# Altium footprint library PCBFeatures.PcbLib: 12 footprints
Each footprint in its own frame and in the unit in brackets; x right, y up, seen from the top. Pads: shape width x height; smd on the part's side, far side on the other; paste and mask are expansions set on the pad; w line width, h text height; cw(c..) or ccw(c..) is an arc to the next point about the centre after c.
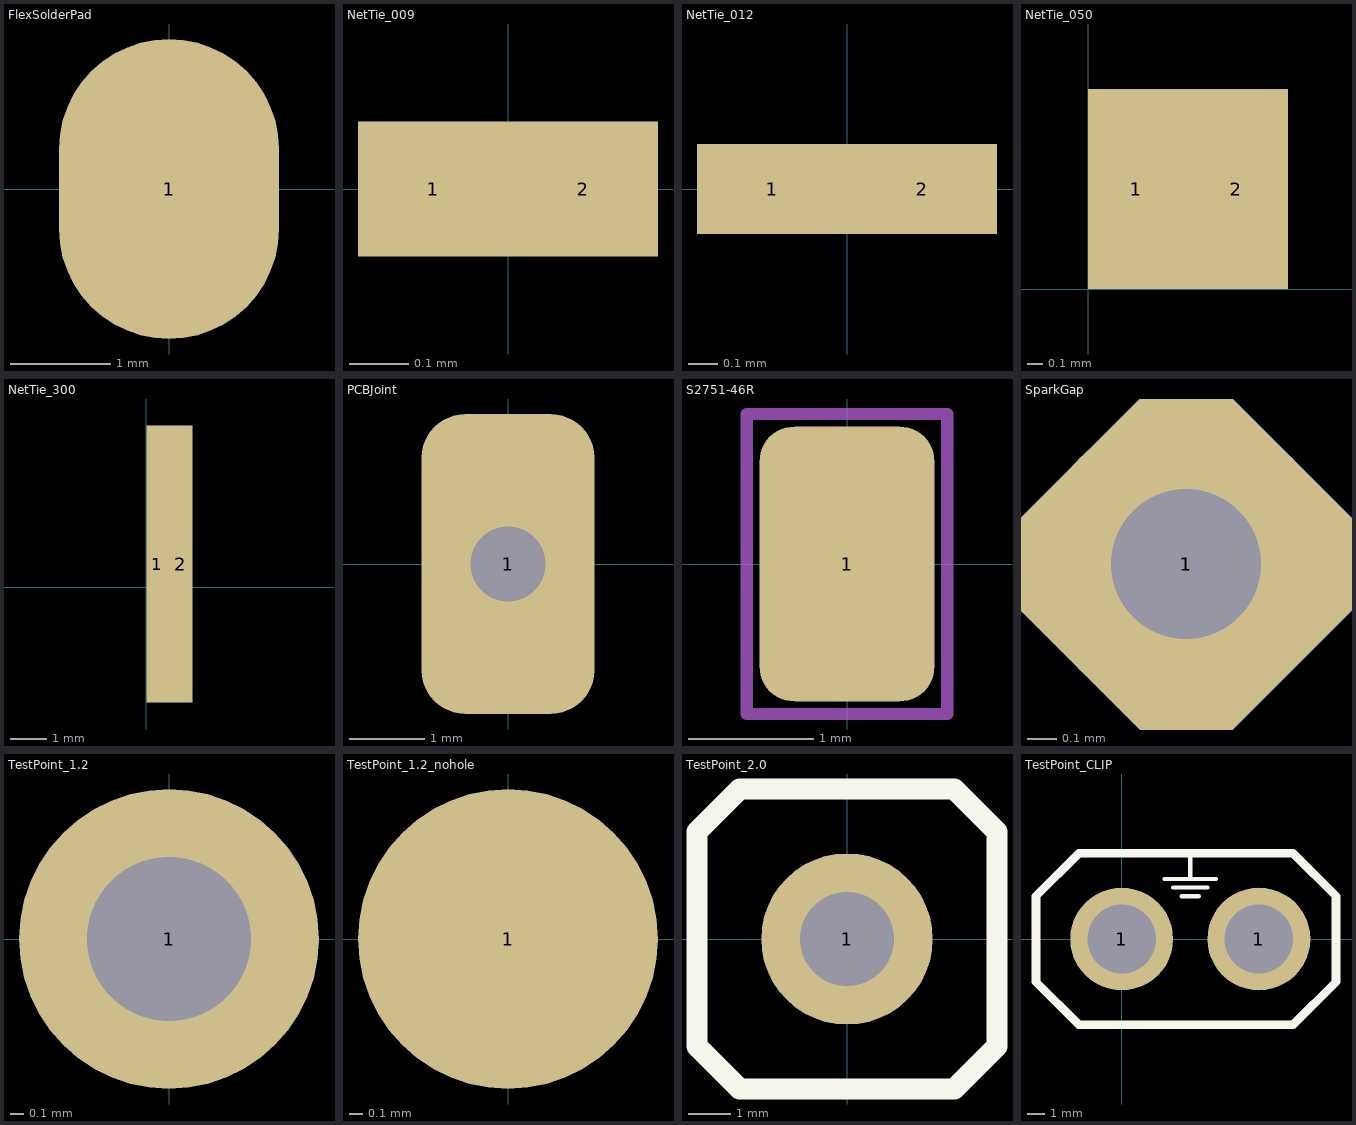
[diagram p0: the footprints below, top view; thin cyan lines are the x and y axes]

## FlexSolderPad [mm]
pads (1):
  oval 2.2x3 smd paste-99 mask-0.5: 1(0,0)

## NetTie_009 [mil] "0.009\" wide net tie"
pads (2):
  rect 10x9 smd paste-99 mask-99: 1(-5,0) 2(5,0)

## NetTie_012 [mil] "0.012\" wide net tie"
pads (2):
  rect 20x12 smd paste-99 mask-99: 1(-10,0) 2(10,0)

## NetTie_050 [mil] "0.050\" wide net tie"
pads (2):
  rect 24x50 smd paste-99 mask-99: 1(12,25)
  rect 26x50 smd paste-99 mask-99: 2(37,25)

## NetTie_300 [mil] "0.300\" wide net tie"
pads (2):
  rect 24x300 smd paste-99 mask-99: 1(12,25)
  rect 26x300 smd paste-99 mask-99: 2(37,25)

## PCBJoint [mm]
pads (1):
  rrect50% 2.3x4 hole 1 paste-99: 1(0,0)

## S2751-46R [mm]
pads (1):
  rrect40% 1.4x2.2 smd paste-0.051 mask+0.09: 1(0,0)
Assembly:
  lines w0.1: -0.8,-1.2 -0.8,-0.1 -0.8,1.2 0.8,1.2 0.8,-1.2 -0.8,-1.2
  text ".Designator" at 0.2,-1.1 h0.7
3D body "s2751-46r.stp": height 1.38, standoff -0.04, extent -0.6,-1 0.6,1

## SparkGap [mil]
pads (2):
  rect 40x40 smd rot 45 paste-99 mask+4: 1(0,0)
  rect 40x40 smd far side rot 45 paste-99 mask+4: 1(0,0)
via 0,0 diameter 40 hole 20

## TestPoint_1.2 [mm]
pads (1):
  round 2.2 hole 1.2: 1(0,0)

## TestPoint_1.2_nohole [mm]
pads (1):
  round 2.2 smd paste-99 mask+0.09: 1(0,0)

## TestPoint_2.0 [mm]
pads (1):
  round 4 hole 2.2: 1(0,0)
Top Overlay:
  lines w0.5: -3.5,-2.5 -2.5,-3.5 2.5,-3.5 3.5,-2.5 3.5,2.5 2.5,3.5 0,3.5 -2.5,3.5 -3.5,2.5 -3.5,-2.5

## TestPoint_CLIP [mm]
pads (2):
  round 6 hole 4: 1(0,0) 1(8,0)
Top Overlay:
  lines w0.25: 2.5,3.5 5.5,3.5 ; 3,3 5,3 ; 3.5,2.5 4.5,2.5 ; 4,3.5 4,5
  lines w0.5: -5,-2.5 -2.5,-5 10,-5 12.5,-2.5 12.5,2.5 10,5 4,5 -2.5,5 -5,2.5 -5,-2.5